# Altium schematic symbol library LED.SchLib: 5 symbols
Pins are listed as number, name and electrical type; pins without a type are passive.

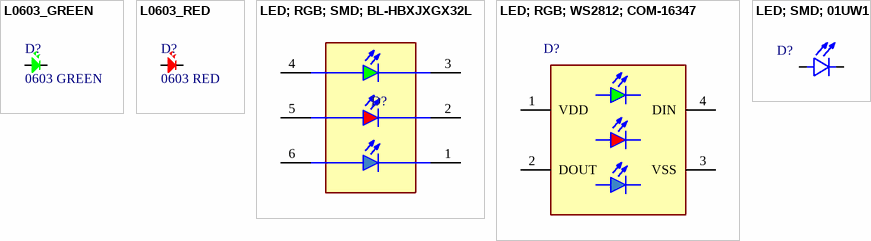
[diagram p0: symbols L0603_GREEN to LED; SMD; 01UW1]

## L0603_GREEN
designator D?, comment 0603 GREEN
225mcd~450mcd Colorless Transparent Lens -40℃~+85℃ Positive Stick 520nm~535nm Green 120° 70mW 2.4V~3V 0603 LED Indication - Discrete ROHS; Manufacturer: Amicc; Manufacture Part Number: A-SP192DGHC-C01-4T; Packaging: Cut Tape (CT); Link: https://www.lcsc.com/product-detail/LED-Indication-Discrete_Amicc-A-SP192DGHC-C01-4T_C19171301.html?s_z=n_LED%200603%20green; Package: 0603
footprint LED0603_GREEN
pins: 1, 2

## L0603_RED
designator D?, comment 0603 RED
20mA 330mcd Colorless Transparent Lens -20℃~+85℃ Positive Stick 620nm~630nm Red 120° 50mW 2.3V 0603 LED Indication - Discrete ROHS; Manufacturer: XINGLIGHT; Manufacture Part Number: XL-1608SURC-06; Packaging: Cut Tape (CT); Link: https://www.lcsc.com/product-detail/LED-Indication-Discrete_XINGLIGHT-XL-1608SURC-06_C965799.html?s_z=n_LED%200603%20red; Package: 0603
footprint LED0603_RED
pins: 1, 2

## LED; RGB; SMD; BL-HBXJXGX32L
designator D?, comment Red, Green, Blue (RGB) 625nm Red, 525nm Green, 568nm Blue LED Indication - Discrete 2V Red, 3.2V Green, 3.3V Blue 6-SMD, J-Lead  (value not drawn)
5050 PLCC6 Rgb; Manufacturer: American Bright; Manufacturer Part Number: BL-HBXJXGX32L; Designer: TVBac; Supplier: Digikey; Supplier Part Number: BL-HBXJXGX32LCT-ND; RoHS: No; Category: LEDs; Stock: 17028; Pricing: 1=0.63, 10=0.388, 100=0.223 (USD); ComponentLink1URL: http://americanbrightled.com/pdffiles/plcc/BL-HBXJXGX32L.pdf?src-supplier=Digikey; ComponentLink1Description: http://americanbrightled.com/pdffiles/plcc/BL-HBXJXGX32L.pdf?src-supplier=Digikey; ComponentLink2Description: Link Digikey; ComponentLink2URL: https://www.digikey.com/en/products/detail/american-bright-optoelectronics-corporation/BL-HBXJXGX32L/9678124
footprint SMD-HxLxW-1.6x5.0x5.0-ABOC
pins: 1 B_C, 2 R_C, 3 G_C, 4 G_A, 5 R_A, 6 B_A

## LED; RGB; WS2812; COM-16347
designator D?, comment Addressable Lighting - LED Serial NRZ (Shift Register) Red, Green, Blue (RGB) 5.00mm L x 5.00mm W  (value not drawn)
Address Led Red/grn/blue; Manufacturer: SparkFun; Manufacturer Part Number: COM-16347; Designer: TVBac; Supplier: Digikey; Supplier Part Number: 1568-COM-16347CT-ND; RoHS: No; Category: Optoelectronics; Stock: 32070; Pricing: 1=0.6 (USD); ComponentLink1URL: http://cdn.sparkfun.com/datasheets/BreakoutBoards/WS2812B.pdf?src-supplier=Digikey; ComponentLink1Description: http://cdn.sparkfun.com/datasheets/BreakoutBoards/WS2812B.pdf?src-supplier=Digikey; ComponentLink2Description: Link Digikey; ComponentLink2URL: https://www.digikey.com/en/products/detail/sparkfun-electronics/COM-16347/11630204
footprint SMD-LxW-5.0x5.0-WS2812-4PIN
pins: 1 VDD, 2 DOUT, 3 VSS, 4 DIN

## LED; SMD; 01UW1
designator D?, comment Red 620nm LED Indication - Discrete 1.8V 0603 (1608 Metric)  (value not drawn)
LED Uni-Color Red 2-PinChip 0603(1608Metric); Manufacturer: Rohm; Manufacturer Part Number: CSL1901UW1; Designer: TVBac; Supplier: Mouser; Supplier Part Number: 755-CSL1901UW1; RoHS: No; Category: LEDs; Stock: 4885; Pricing: 1=0.36, 10=0.213, 50=0.213, 100=0.108, 1000=0.093, 10000=0.092 (USD); ComponentLink1Description: Link Digikey; ComponentLink1URL: https://www.digikey.com/en/products/detail/rohm-semiconductor/CSL1901UW1/16685590
footprint SMD-LED-0603-0.65H
pins: 1 A, 2 C